# EAGLE library part 5025700893 (library molex-sd-card-receptacle-5025700893)
CONN MICRO SD CARD PUSH-PUSH R/A Source: Datasheet <https://www.molex.com/pdm_docs/sd/5025700893_sd.pdf>
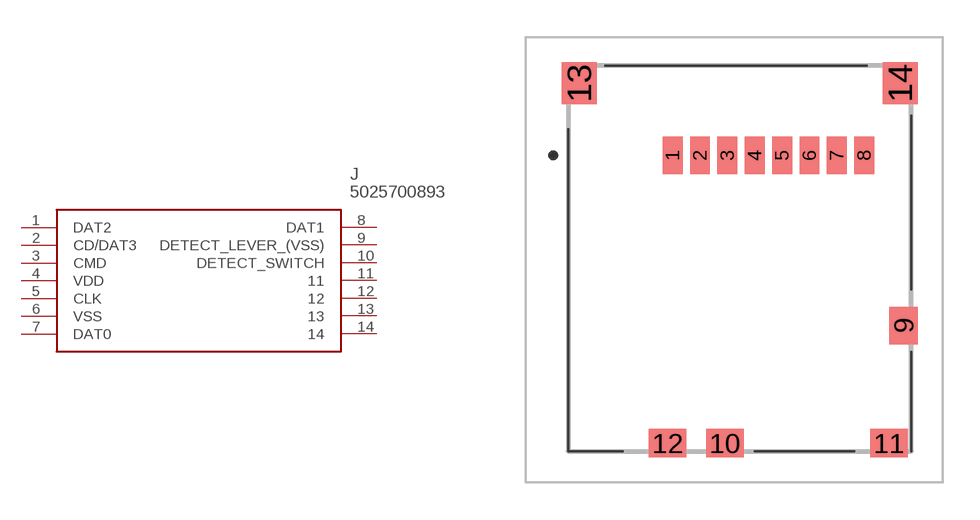
[diagram p0: symbol with the pads of 5025700893; footprint 5025700893]

Designator prefix J

## 5025700893 (Arrow_Part_Number: 5025700893; Arrow_Price-Stock: https://www.arrow.com/en/products/5025700893/molex?region=nac; Description: CONN MICRO SD CARD PUSH-PUSH R/A; Height: 1mm; Manufacturer_Name: Molex; Manufacturer_Part_Number: 5025700893)  [5025700893]
1  DAT2
2  CD/DAT3
3  CMD
4  VDD
5  CLK
6  VSS
7  DAT0
8  DAT1
9  DETECT_LEVER_(VSS)
10  DETECT_SWITCH
11  11
12  12
13  13
14  14

## Footprint 5025700893 (pad centres in mm)
5025700893
smd 0.8 x 1.5: 1 -2.475,4.2; 2 -1.375,4.2; 3 -0.275,4.2; 4 0.825,4.2; 5 1.925,4.2; 6 3.025,4.2; 7 4.125,4.2; 8 5.225,4.2
smd 1.15 x 1.5: 9 6.8,-2.65
smd 1.5 x 1.15: 10 -0.375,-7.375; 11 6.225,-7.375; 12 -2.675,-7.375
smd 1.4 x 1.7: 13 -6.225,7.1; 14 6.675,7.1